# EAGLE library part TPS7A4533KTTR (library LDO)
IC REG LIN 3.3V 1.5A DDPAK/TO263 Manufacturer's datasheet <http://www.ti.com/lit/ds/symlink/tps7a45.pdf?HQS=TI-null-null-digikeymode-df-pf-null-wwe&ts=1591766220673&ref_url=http://www.ti.com/general/docs/suppproductinfo.tsp?distId%3D10&gotoUrl=http://www.ti.com/lit/gpn/tps7a45>
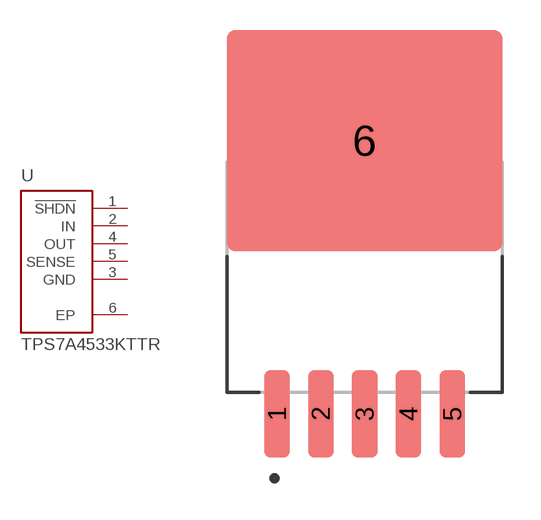
[diagram p8: symbol with the pads of DPAK-5; footprint DPAK-5]

Designator prefix U

## TPS7A4533KTTR (CREATED_BY: PCBLayout.com; DIGIKEY_PARTNO: 296-23755-1-ND; MANUFACTURER: Texas Instruments; MPN: TPS7A4533KTTR; PACKAGE: TO-263-5)  [DPAK-5]
1  !SHDN  pas
2  IN  in
3  GND
4  OUT  out
5  SENSE  out
6  EP  pas

## Footprint DPAK-5 (pad centres in mm)
DPAK, 1.70 mm pitch; 5 pin, 8.925 mm L X 10.16 mm W X 4.83 mm H body PCB Libraries Packages
smd 1 x 3.4: 1 -3.4,-5.3; 2 -1.7,-5.3; 3 0,-5.3; 4 1.7,-5.3; 5 3.4,-5.3
smd 10.7 x 8.6: 6 0,5.3